# EAGLE library part DRV2604/05 (library pimoroni-ics)
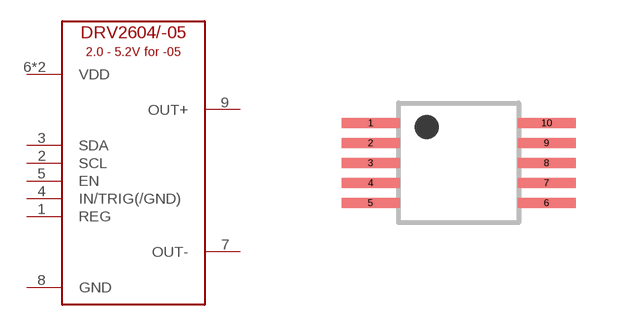
[diagram p98: symbol with the pads of VSSOP-10; footprint VSSOP-10]

Designator prefix U

## DRV2604/05  [VSSOP-10]
1  REG
2  SCL
3  SDA
4  IN/TRIG(/GND)
5  EN
6  VDD
7  OUT-
8  GND
9  OUT+
10  VDD

## Footprint VSSOP-10 (pad centres in mm)
smd 1.45 x 0.25: 1 -2.2,1; 2 -2.2,0.5; 3 -2.2,0; 4 -2.2,-0.5; 5 -2.2,-1; 6 2.2,-1; 7 2.2,-0.5; 8 2.2,0; 9 2.2,0.5; 10 2.2,1